# Altium schematic symbol library transformer.SchLib: 8 symbols
Pins are listed as number, name and electrical type; pins without a type are passive.

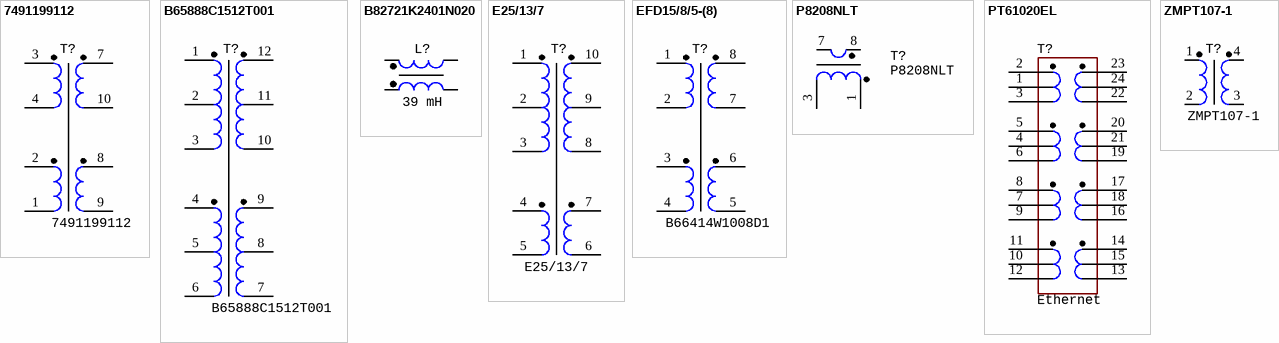
[diagram p0: symbols 7491199112 to ZMPT107-1]

## 7491199112
designator T?
PoE, EP13, 36...57V, output 12V, 13W, 550 mA, 200...500 kHz, 127 uH, -40...+125°C; Manufacture: EP13; HelpURL: https://eu.mouser.com/ProductDetail/Wurth-Elektronik/7491199112?qs=YvrHl8DOVkxc9ZHDOVI4og%3D%3D; Package: EP13 series; PartNumber: 7491199112
footprint TRANS: EP13 (7491199112)
pins: 1 (power), 2 (power), 3 (power), 4 (power), 7 (power), 8 (power), 9 (power), 10 (power)

## B65888C1512T001
designator T?
RM14, 12 pins, 40...+125°C; Manufacture: Epcos; HelpURL: https://eu.mouser.com/ProductDetail/EPCOS-TDK/B65888C1512T001?qs=N%252Bh8jyF%252BpbEJvxDNd82zmw%3D%3D; Package: RM14; PartNumber: B65888C1512T001
footprint TRANS: RM14 (TR V.1)
pins: 1 (power), 2 (power), 3 (power), 4 (power), 5 (power), 6 (power), 7 (power), 8 (power), 9 (power), 10 (power), 11 (power), 12 (power)

## B82721K2401N020
designator L?  value 39 mH  (hidden comment: B82721K2401N020)
EMI filter, 39 mH, 400 mA, 2 Ohms, -40...+125°C; Manufacture: Epcos; HelpURL: https://eu.mouser.com/ProductDetail/EPCOS-TDK/B82721K2401N020?qs=RhsrC5wx0u8vwKby8yEHvg%3D%3D; PartNumber: B82721K2401N020
footprint IND: B82721
pins: 1, 2, 3, 4

## E25/13/7
designator T?
E25 vertical, 10 pins, -40...+125°C; PartNumber: B66208W1010T001; Manufacture: Epcos; HelpURL: https://eu.mouser.com/ProductDetail/EPCOS-TDK/B66208W1010T001?qs=%2FsLciWRBLmDlNykn4oqQtw%3D%3D; Package: E25/13/7
footprint TRANS: E25/13/7
pins: 1 (power), 2 (power), 3 (power), 4 (power), 5 (power), 6 (power), 7 (power), 8 (power), 9 (power), 10 (power)

## EFD15/8/5-(8)
designator T?  PartNumber: B66414W1008D1  (hidden comment: EFD15/8/5-(8))
EFD25 horizontal, 8 pins, -40...+125°C; Manufacture: Epcos; HelpURL: https://eu.mouser.com/ProductDetail/EPCOS-TDK/B66414W1008D1?qs=sGAEpiMZZMukHu%252BjC5l7YStcl3Yjy%2FM9KzW9xbYOrLI%3D; Package: EFD15/8/5
footprint TRANS: EFD15/8/5 - (8)
pins: 1 (power), 2 (power), 3 (power), 4 (power), 5 (power), 6 (power), 7 (power), 8 (power)

## P8208NLT
designator T?
Current sensor, 10A, 50...1000 kHz, 1:100, -40...+125°C; Manufacture: Pulse Electronics; HelpURL: https://eu.mouser.com/ProductDetail/Pulse-Electronics/P8208NLT?qs=KeEC2sKYs3hEkscPpOnqsw%3D%3D; Package: P820x series; PartNumber: P8208NLT
footprint TRANS: P8208NLT
pins: 1 (power), 3 (power), 7 (power), 8 (power)

## PT61020EL
designator T?  Package: Ethernet  (hidden comment: PT61020EL)
Ethernet, 10/100/1000 Base-T, 4 pairs, 1500 Vrms, -40...+85°C; Manufacturer: Bourns; PartNumber: PT61020EL; HelpURL: https://ru.mouser.com/ProductDetail/Bourns/PT61020EL?qs=%2Fha2pyFaduhha1un8bjLqoXPpakIcfAnykNROp4YYQs%3D; Manufacturer Part Number: PT61020EL; Component Type: Transformers
footprint TRANS: 749020011A (Transformer Ethernet) (1G Ethernet transformer)
pins: 1 (power), 2 (power), 3, 4, 5, 6, 7, 8, 9, 10, 11, 12, 13, 14, 15, 16, 17, 18, 19, 20, 21, 22, 23, 24

## ZMPT107-1
designator T?
Voltage sensor, 1000V, 2mA, 3000 Vrms, 0.6%, -40...+70°C; Manufacture: Qingxian Zeming; HelpURL: https://lcsc.com/product-detail/Current-Transformers_Qingxian-Zeming-Langxi-Elec-ZMPT107-1_C125191.html; Package: ZMPT series; PartNumber: ZMPT107-1
footprint TRANS: ZMPT107-1 (Voltage Transformer)
pins: 1 (power), 2 (power), 3 (power), 4 (power)